# EAGLE library part ADS131M08IPBSR (library ADS131M08IPBSR)
Analog to Digital Converters - ADC 24-bit 32-kSPS 8-channel simultaneous-sampling delta-sigma ADC 32-TQFP -40 to 125 Source: Datasheet <http://www.ti.com/lit/ds/symlink/ads131m08.pdf>
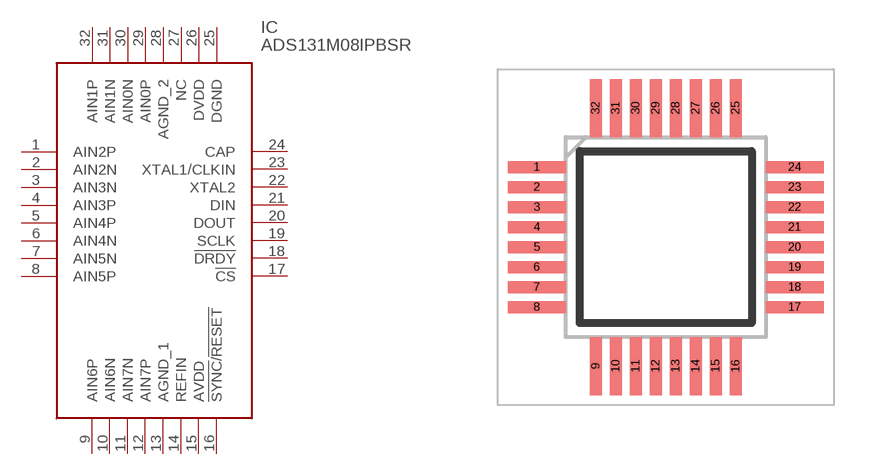
[diagram p0: symbol with the pads of QFP50P700X700X120-32N; footprint QFP50P700X700X120-32N]

Designator prefix IC

## ADS131M08IPBSR (Arrow_Part_Number: ADS131M08IPBSR; Arrow_Price-Stock: https://www.arrow.com/en/products/ads131m08ipbsr/texas-instruments?region=nac; Description: Analog to Digital Converters - ADC 24-bit 32-kSPS 8-channel simultaneous-sampling delta-sigma ADC 32-TQFP -40 to 125; Height: 1.2mm; Manufacturer_Name: Texas Instruments; Manufacturer_Part_Number: ADS131M08IPBSR; Mouser_Part_Number: 595-ADS131M08IPBSR; Mouser_Price-Stock: https://www.mouser.co.uk/ProductDetail/Texas-Instruments/ADS131M08IPBSR?qs=Cb2nCFKsA8rxAEyQYn%2FiEQ%3D%3D)  [QFP50P700X700X120-32N]
1  AIN2P  in
2  AIN2N  in
3  AIN3N  in
4  AIN3P  in
5  AIN4P  in
6  AIN4N  in
7  AIN5N  in
8  AIN5P  in
9  AIN6P  in
10  AIN6N  in
11  AIN7N  in
12  AIN7P  in
13  AGND_1  pwr
14  REFIN
15  AVDD  pwr
16  !SYNC!/!RESET  in
17  !CS  in
18  !DRDY  out
19  SCLK  in
20  DOUT  out
21  DIN  in
22  XTAL2  out
23  XTAL1/CLKIN  in
24  CAP  out
25  DGND  pwr
26  DVDD  pwr
27  NC  nc
28  AGND_2  pwr
29  AIN0P  in
30  AIN0N  in
31  AIN1N  in
32  AIN1P  in

## Footprint QFP50P700X700X120-32N (pad centres in mm)
PBS (S-PQFP-G32)
smd 1.45 x 0.3: 1 -3.225,1.75; 2 -3.225,1.25; 3 -3.225,0.75; 4 -3.225,0.25; 5 -3.225,-0.25; 6 -3.225,-0.75; 7 -3.225,-1.25; 8 -3.225,-1.75; 17 3.225,-1.75; 18 3.225,-1.25; 19 3.225,-0.75; 20 3.225,-0.25; 21 3.225,0.25; 22 3.225,0.75; 23 3.225,1.25; 24 3.225,1.75
smd 0.3 x 1.45: 9 -1.75,-3.225; 10 -1.25,-3.225; 11 -0.75,-3.225; 12 -0.25,-3.225; 13 0.25,-3.225; 14 0.75,-3.225; 15 1.25,-3.225; 16 1.75,-3.225; 25 1.75,3.225; 26 1.25,3.225; 27 0.75,3.225; 28 0.25,3.225; 29 -0.25,3.225; 30 -0.75,3.225; 31 -1.25,3.225; 32 -1.75,3.225